# EAGLE library part SN74HC251NSR (library SN74HC251NSR)
Data Selectors/Multiplexers With 3-State Outputs Source: Datasheet <http://www.ti.com/lit/gpn/sn74hc251>
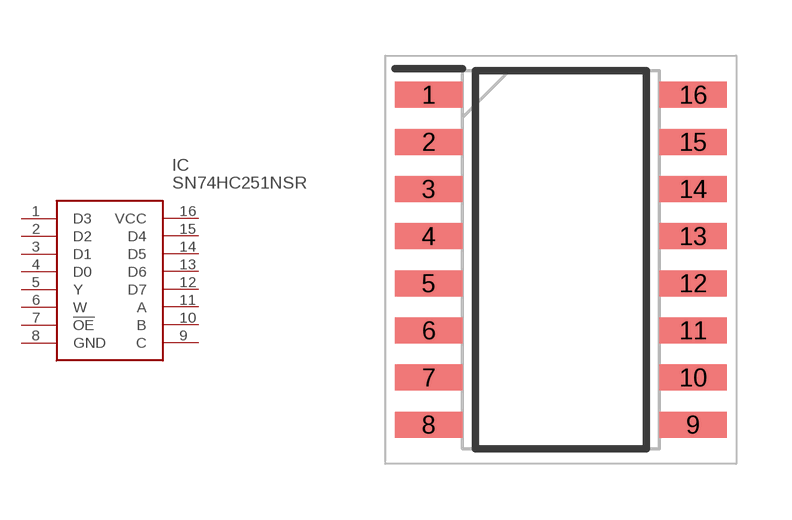
[diagram p0: symbol with the pads of SOIC127P780X200-16N; footprint SOIC127P780X200-16N]

Designator prefix IC

## SN74HC251NSR (Arrow_Part_Number: SN74HC251NSR; Arrow_Price-Stock: https://www.arrow.com/en/products/sn74hc251nsr/texas-instruments; Description: Data Selectors/Multiplexers With 3-State Outputs; Height: 2mm; Manufacturer_Name: Texas Instruments; Manufacturer_Part_Number: SN74HC251NSR; Mouser_Part_Number: 595-SN74HC251NSR; Mouser_Price-Stock: https://www.mouser.co.uk/ProductDetail/Texas-Instruments/SN74HC251NSR?qs=3FVjRv9mUZ%252BV3BPq6pq0uQ%3D%3D)  [SOIC127P780X200-16N]
1  D3
2  D2
3  D1
4  D0
5  Y
6  W
7  !OE
8  GND
9  C
10  B
11  A
12  D7
13  D6
14  D5
15  D4
16  VCC

## Footprint SOIC127P780X200-16N (pad centres in mm)
NS (R-PDSO-G16)
smd 1.825 x 0.7: 1 -3.562,4.445; 2 -3.562,3.175; 3 -3.562,1.905; 4 -3.562,0.635; 5 -3.562,-0.635; 6 -3.562,-1.905; 7 -3.562,-3.175; 8 -3.562,-4.445; 9 3.562,-4.445; 10 3.562,-3.175; 11 3.562,-1.905; 12 3.562,-0.635; 13 3.562,0.635; 14 3.562,1.905; 15 3.562,3.175; 16 3.562,4.445